# Altium integrated library Micron Memory Mobile LPDRAM.IntLib: 146 symbols (part 3 of 41)
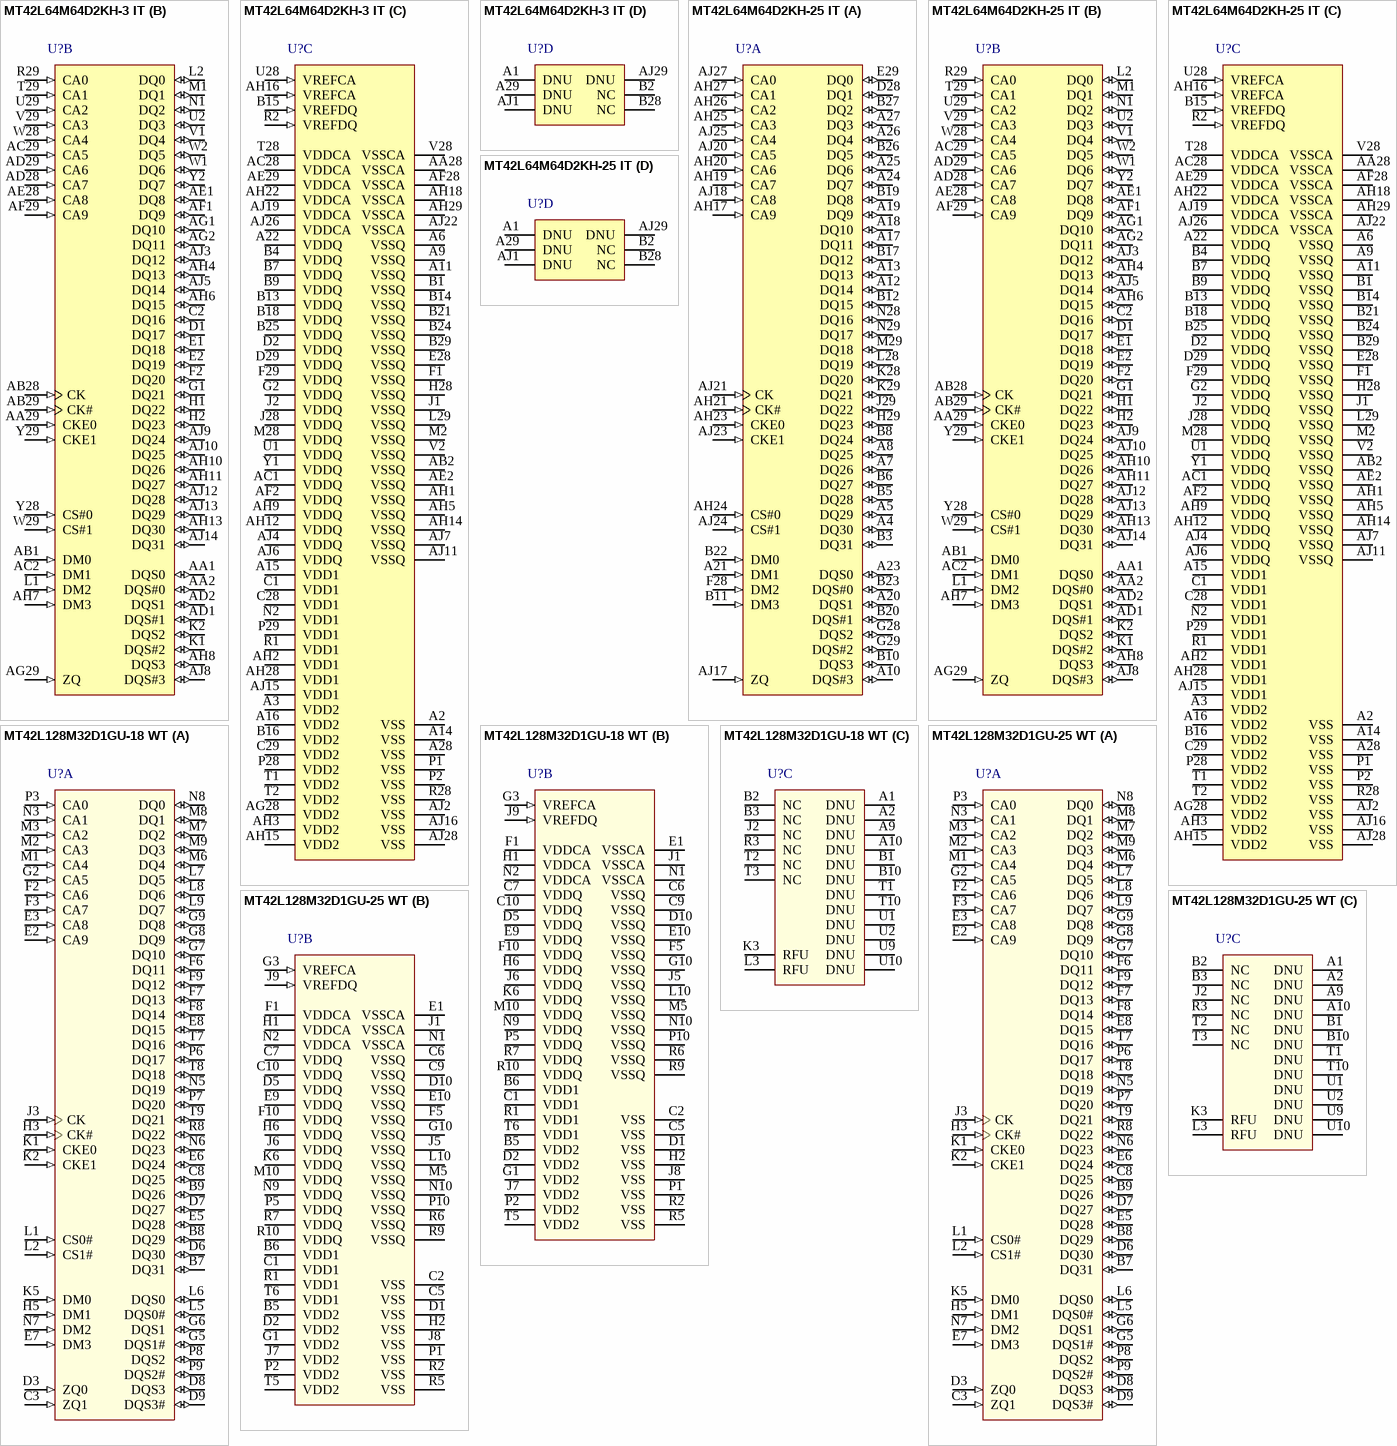
[diagram p26: symbols MT42L64M64D2KH-3 IT to MT42L128M32D1GU-25 WT]

## MT42L64M64D2KH-25 IT
designator U?
4Gb LPDDR2-800 SDRAM, 64Mb x 64, 2.5ns, 1.2V, -25 to 85 degC, 216-Pin POP, Pb-Free; Manufacturer: Micron; PartNumber: MT42L64M64D2KH-25 IT; Clock Rate: 400 MHz; Op. Temp.: -25C to +85C; DatasheetVersion: Rev.N; PackageVersion: Rev.N; PackageReference: MICT-KH-216; PackageDescription: 216-Ball POP, 12 x 12 mm, Pitch 0.4 mm; Cycle Time: 2.5ns; Data Rate: LPDDR2-800; Density: 4Gb; Depth: 64Mb; Package: POP; Part Status: Production; Pin Count: 216-ball; RoHS: Yes; Technology: Mobile LPDDR2; Voltage: 1.2V; Width: x64; Mounting Technology: Surface Mount; ComponentLink1Description: Manufacturer URL; ComponentLink1URL: http://www.micron.com/; ComponentLink2Description: Datasheet; ComponentLink2URL: http://www.micron.com/~/media/Documents/Products/Data%20Sheet/DRAM/Mobile%20DRAM/Low-Power%20DRAM/LPDDR2/G69A_2Gb_mobile_lpddr2_s4_sdram.pdf; ComponentLink3Description: Package Specification; ComponentLink3URL: http://www.micron.com/~/media/Documents/Products/Data%20Sheet/DRAM/Mobile%20DRAM/Low-Power%20DRAM/LPDDR2/G69A_2Gb_mobile_lpddr2_s4_sdram.pdf
footprint MICT-KH-216 (BGA, 216-Balls, Body 12x12mm, Pitch 0.4mm)
part A pins: A4 DQ30 (io) "Data input/output: Bidirectional data bus.", A5 DQ29 (io) "Data input/output: Bidirectional data bus.", A7 DQ26 (io) "Data input/output: Bidirectional data bus.", A8 DQ25 (io) "Data input/output: Bidirectional data bus.", A10 DQS#3 (io) "Data strobe: The data strobe is bidirectional (used for read and write data) and complementary (DQS and DQS#). It is edge-aligned output with read data and centered input with write data. DQS[3:0]/DQS[3:0]# is DQS for each (See Datasheet)", A12 DQ14 (io) "Data input/output: Bidirectional data bus.", A13 DQ13 (io) "Data input/output: Bidirectional data bus.", A17 DQ11 (io) "Data input/output: Bidirectional data bus.", A18 DQ10 (io) "Data input/output: Bidirectional data bus.", A19 DQ9 (io) "Data input/output: Bidirectional data bus.", A20 DQS1 (io) "Data strobe: The data strobe is bidirectional (used for read and write data) and complementary (DQS and DQS#). It is edge-aligned output with read data and centered input with write data. DQS[3:0]/DQS[3:0]# is DQS for each (See Datasheet)", A21 DM1 (in) "Input data mask: DM is an input mask signal for write data. Although DM balls are input-only, the DM loading is designed to match that of DQ and DQS balls. DM[3:0] is DM for each of the four data bytes, respectively.", A23 DQS0 (io) "Data strobe: The data strobe is bidirectional (used for read and write data) and complementary (DQS and DQS#). It is edge-aligned output with read data and centered input with write data. DQS[3:0]/DQS[3:0]# is DQS for each (See Datasheet)", A24 DQ7 (io) "Data input/output: Bidirectional data bus.", A25 DQ6 (io) "Data input/output: Bidirectional data bus.", A26 DQ4 (io) "Data input/output: Bidirectional data bus.", A27 DQ3 (io) "Data input/output: Bidirectional data bus.", AH17 CA9 (in) "Command/address inputs: Provide the command and address inputs according to the command truth table.", AH19 CA7 (in) "Command/address inputs: Provide the command and address inputs according to the command truth table.", AH20 CA6 (in) "Command/address inputs: Provide the command and address inputs according to the command truth table.", AH21 CK# (in) "Clock: CK and CK# are differential clock inputs. All CA inputs are sampled on both rising and falling edges of CK. CS and CKE inputs are sampled at the rising edge of CK. AC timings are referenced to clock.", AH23 CKE0 (in) "Clock enable: CKE HIGH activates and CKE LOW deactivates the internal clock signals, input buffers, and output drivers. Power-saving modes are entered and exited via CKE transitions. CKE is considered part of the command (See Datasheet)", AH24 CS#0 (in) "Chip select: CS# is considered part of the command code and is sampled at the rising edge of CK.", AH25 CA3 (in) "Command/address inputs: Provide the command and address inputs according to the command truth table.", AH26 CA2 (in) "Command/address inputs: Provide the command and address inputs according to the command truth table.", AH27 CA1 (in) "Command/address inputs: Provide the command and address inputs according to the command truth table.", AJ17 ZQ (in) "External impedance (240 ohm): This signal is used to calibrate the device output impedance for S4 devices. For S2 devices, ZQ should be tied to VDDCA.", AJ18 CA8 (in) "Command/address inputs: Provide the command and address inputs according to the command truth table.", AJ20 CA5 (in) "Command/address inputs: Provide the command and address inputs according to the command truth table.", AJ21 CK (in) "Clock: CK and CK# are differential clock inputs. All CA inputs are sampled on both rising and falling edges of CK. CS and CKE inputs are sampled at the rising edge of CK. AC timings are referenced to clock.", AJ23 CKE1 (in) "Clock enable: CKE HIGH activates and CKE LOW deactivates the internal clock signals, input buffers, and output drivers. Power-saving modes are entered and exited via CKE transitions. CKE is considered part of the command (See Datasheet)", AJ24 CS#1 (in) "Chip select: CS# is considered part of the command code and is sampled at the rising edge of CK.", AJ25 CA4 (in) "Command/address inputs: Provide the command and address inputs according to the command truth table.", AJ27 CA0 (in) "Command/address inputs: Provide the command and address inputs according to the command truth table.", B3 DQ31 (io) "Data input/output: Bidirectional data bus.", B5 DQ28 (io) "Data input/output: Bidirectional data bus.", B6 DQ27 (io) "Data input/output: Bidirectional data bus.", B8 DQ24 (io) "Data input/output: Bidirectional data bus.", B10 DQS3 (io) "Data strobe: The data strobe is bidirectional (used for read and write data) and complementary (DQS and DQS#). It is edge-aligned output with read data and centered input with write data. DQS[3:0]/DQS[3:0]# is DQS for each (See Datasheet)", B11 DM3 (in) "Input data mask: DM is an input mask signal for write data. Although DM balls are input-only, the DM loading is designed to match that of DQ and DQS balls. DM[3:0] is DM for each of the four data bytes, respectively.", B12 DQ15 (io) "Data input/output: Bidirectional data bus.", B17 DQ12 (io) "Data input/output: Bidirectional data bus.", B19 DQ8 (io) "Data input/output: Bidirectional data bus.", B20 DQS#1 (io) "Data strobe: The data strobe is bidirectional (used for read and write data) and complementary (DQS and DQS#). It is edge-aligned output with read data and centered input with write data. DQS[3:0]/DQS[3:0]# is DQS for each (See Datasheet)", B22 DM0 (in) "Input data mask: DM is an input mask signal for write data. Although DM balls are input-only, the DM loading is designed to match that of DQ and DQS balls. DM[3:0] is DM for each of the four data bytes, respectively.", B23 DQS#0 (io) "Data strobe: The data strobe is bidirectional (used for read and write data) and complementary (DQS and DQS#). It is edge-aligned output with read data and centered input with write data. DQS[3:0]/DQS[3:0]# is DQS for each (See Datasheet)", B26 DQ5 (io) "Data input/output: Bidirectional data bus.", B27 DQ2 (io) "Data input/output: Bidirectional data bus.", D28 DQ1 (io) "Data input/output: Bidirectional data bus.", E29 DQ0 (io) "Data input/output: Bidirectional data bus.", F28 DM2 (in) "Input data mask: DM is an input mask signal for write data. Although DM balls are input-only, the DM loading is designed to match that of DQ and DQS balls. DM[3:0] is DM for each of the four data bytes, respectively.", G28 DQS2 (io) "Data strobe: The data strobe is bidirectional (used for read and write data) and complementary (DQS and DQS#). It is edge-aligned output with read data and centered input with write data. DQS[3:0]/DQS[3:0]# is DQS for each (See Datasheet)", G29 DQS#2 (io) "Data strobe: The data strobe is bidirectional (used for read and write data) and complementary (DQS and DQS#). It is edge-aligned output with read data and centered input with write data. DQS[3:0]/DQS[3:0]# is DQS for each (See Datasheet)", H29 DQ23 (io) "Data input/output: Bidirectional data bus.", J29 DQ22 (io) "Data input/output: Bidirectional data bus.", K28 DQ20 (io) "Data input/output: Bidirectional data bus.", K29 DQ21 (io) "Data input/output: Bidirectional data bus.", L28 DQ19 (io) "Data input/output: Bidirectional data bus.", M29 DQ18 (io) "Data input/output: Bidirectional data bus.", N28 DQ16 (io) "Data input/output: Bidirectional data bus.", N29 DQ17 (io) "Data input/output: Bidirectional data bus."
part B pins: AA1 DQS0 (io) "Data strobe: The data strobe is bidirectional (used for read and write data) and complementary (DQS and DQS#). It is edge-aligned output with read data and centered input with write data. DQS[3:0]/DQS[3:0]# is DQS for each (See Datasheet)", AA2 DQS#0 (io) "Data strobe: The data strobe is bidirectional (used for read and write data) and complementary (DQS and DQS#). It is edge-aligned output with read data and centered input with write data. DQS[3:0]/DQS[3:0]# is DQS for each (See Datasheet)", AA29 CKE0 (in) "Clock enable: CKE HIGH activates and CKE LOW deactivates the internal clock signals, input buffers, and output drivers. Power-saving modes are entered and exited via CKE transitions. CKE is considered part of the command (See Datasheet)", AB1 DM0 (in) "Input data mask: DM is an input mask signal for write data. Although DM balls are input-only, the DM loading is designed to match that of DQ and DQS balls. DM[3:0] is DM for each of the four data bytes, respectively.", AB28 CK (in) "Clock: CK and CK# are differential clock inputs. All CA inputs are sampled on both rising and falling edges of CK. CS and CKE inputs are sampled at the rising edge of CK. AC timings are referenced to clock.", AB29 CK# (in) "Clock: CK and CK# are differential clock inputs. All CA inputs are sampled on both rising and falling edges of CK. CS and CKE inputs are sampled at the rising edge of CK. AC timings are referenced to clock.", AC2 DM1 (in) "Input data mask: DM is an input mask signal for write data. Although DM balls are input-only, the DM loading is designed to match that of DQ and DQS balls. DM[3:0] is DM for each of the four data bytes, respectively.", AC29 CA5 (in) "Command/address inputs: Provide the command and address inputs according to the command truth table.", AD1 DQS#1 (io) "Data strobe: The data strobe is bidirectional (used for read and write data) and complementary (DQS and DQS#). It is edge-aligned output with read data and centered input with write data. DQS[3:0]/DQS[3:0]# is DQS for each (See Datasheet)", AD2 DQS1 (io) "Data strobe: The data strobe is bidirectional (used for read and write data) and complementary (DQS and DQS#). It is edge-aligned output with read data and centered input with write data. DQS[3:0]/DQS[3:0]# is DQS for each (See Datasheet)", AD28 CA7 (in) "Command/address inputs: Provide the command and address inputs according to the command truth table.", AD29 CA6 (in) "Command/address inputs: Provide the command and address inputs according to the command truth table.", AE1 DQ8 (io) "Data input/output: Bidirectional data bus.", AE28 CA8 (in) "Command/address inputs: Provide the command and address inputs according to the command truth table.", AF1 DQ9 (io) "Data input/output: Bidirectional data bus.", AF29 CA9 (in) "Command/address inputs: Provide the command and address inputs according to the command truth table.", AG1 DQ10 (io) "Data input/output: Bidirectional data bus.", AG2 DQ11 (io) "Data input/output: Bidirectional data bus.", AG29 ZQ (in) "External impedance (240 ohm): This signal is used to calibrate the device output impedance for S4 devices. For S2 devices, ZQ should be tied to VDDCA.", AH4 DQ13 (io) "Data input/output: Bidirectional data bus.", AH6 DQ15 (io) "Data input/output: Bidirectional data bus.", AH7 DM3 (in) "Input data mask: DM is an input mask signal for write data. Although DM balls are input-only, the DM loading is designed to match that of DQ and DQS balls. DM[3:0] is DM for each of the four data bytes, respectively.", AH8 DQS3 (io) "Data strobe: The data strobe is bidirectional (used for read and write data) and complementary (DQS and DQS#). It is edge-aligned output with read data and centered input with write data. DQS[3:0]/DQS[3:0]# is DQS for each (See Datasheet)", AH10 DQ26 (io) "Data input/output: Bidirectional data bus.", AH11 DQ27 (io) "Data input/output: Bidirectional data bus.", AH13 DQ30 (io) "Data input/output: Bidirectional data bus.", AJ3 DQ12 (io) "Data input/output: Bidirectional data bus.", AJ5 DQ14 (io) "Data input/output: Bidirectional data bus.", AJ8 DQS#3 (io) "Data strobe: The data strobe is bidirectional (used for read and write data) and complementary (DQS and DQS#). It is edge-aligned output with read data and centered input with write data. DQS[3:0]/DQS[3:0]# is DQS for each (See Datasheet)", AJ9 DQ24 (io) "Data input/output: Bidirectional data bus.", AJ10 DQ25 (io) "Data input/output: Bidirectional data bus.", AJ12 DQ28 (io) "Data input/output: Bidirectional data bus.", AJ13 DQ29 (io) "Data input/output: Bidirectional data bus.", AJ14 DQ31 (io) "Data input/output: Bidirectional data bus.", C2 DQ16 (io) "Data input/output: Bidirectional data bus.", D1 DQ17 (io) "Data input/output: Bidirectional data bus.", E1 DQ18 (io) "Data input/output: Bidirectional data bus.", E2 DQ19 (io) "Data input/output: Bidirectional data bus.", F2 DQ20 (io) "Data input/output: Bidirectional data bus.", G1 DQ21 (io) "Data input/output: Bidirectional data bus.", H1 DQ22 (io) "Data input/output: Bidirectional data bus.", H2 DQ23 (io) "Data input/output: Bidirectional data bus.", K1 DQS#2 (io) "Data strobe: The data strobe is bidirectional (used for read and write data) and complementary (DQS and DQS#). It is edge-aligned output with read data and centered input with write data. DQS[3:0]/DQS[3:0]# is DQS for each (See Datasheet)", K2 DQS2 (io) "Data strobe: The data strobe is bidirectional (used for read and write data) and complementary (DQS and DQS#). It is edge-aligned output with read data and centered input with write data. DQS[3:0]/DQS[3:0]# is DQS for each (See Datasheet)", L1 DM2 (in) "Input data mask: DM is an input mask signal for write data. Although DM balls are input-only, the DM loading is designed to match that of DQ and DQS balls. DM[3:0] is DM for each of the four data bytes, respectively.", L2 DQ0 (io) "Data input/output: Bidirectional data bus.", M1 DQ1 (io) "Data input/output: Bidirectional data bus.", N1 DQ2 (io) "Data input/output: Bidirectional data bus.", R29 CA0 (in) "Command/address inputs: Provide the command and address inputs according to the command truth table.", T29 CA1 (in) "Command/address inputs: Provide the command and address inputs according to the command truth table.", U2 DQ3 (io) "Data input/output: Bidirectional data bus.", U29 CA2 (in) "Command/address inputs: Provide the command and address inputs according to the command truth table.", V1 DQ4 (io) "Data input/output: Bidirectional data bus.", V29 CA3 (in) "Command/address inputs: Provide the command and address inputs according to the command truth table.", W1 DQ6 (io) "Data input/output: Bidirectional data bus.", W2 DQ5 (io) "Data input/output: Bidirectional data bus.", W28 CA4 (in) "Command/address inputs: Provide the command and address inputs according to the command truth table.", W29 CS#1 (in) "Chip select: CS# is considered part of the command code and is sampled at the rising edge of CK.", Y2 DQ7 (io) "Data input/output: Bidirectional data bus.", Y28 CS#0 (in) "Chip select: CS# is considered part of the command code and is sampled at the rising edge of CK.", Y29 CKE1 (in) "Clock enable: CKE HIGH activates and CKE LOW deactivates the internal clock signals, input buffers, and output drivers. Power-saving modes are entered and exited via CKE transitions. CKE is considered part of the command (See Datasheet)"
part C pins: A2 VSS (power) "Common ground", A3 VDD2 (power) "Core power: Supply 2.", A6 VSSQ (power) "DQ ground: Isolated on the die for improved noise immunity.", A9 VSSQ (power) "DQ ground: Isolated on the die for improved noise immunity.", A11 VSSQ (power) "DQ ground: Isolated on the die for improved noise immunity.", A14 VSS (power) "Common ground", A15 VDD1 (power) "Core power: Supply 1.", A16 VDD2 (power) "Core power: Supply 2.", A22 VDDQ (power) "DQ power supply: Isolated on the die for improved noise immunity.", A28 VSS (power) "Common ground", AA28 VSSCA (power) "Command/address ground: Isolated on the die for improved noise immunity.", AB2 VSSQ (power) "DQ ground: Isolated on the die for improved noise immunity.", AC1 VDDQ (power) "DQ power supply: Isolated on the die for improved noise immunity.", AC28 VDDCA (power) "Command/address power supply: Command/address power supply.", AE2 VSSQ (power) "DQ ground: Isolated on the die for improved noise immunity.", AE29 VDDCA (power) "Command/address power supply: Command/address power supply.", AF2 VDDQ (power) "DQ power supply: Isolated on the die for improved noise immunity.", AF28 VSSCA (power) "Command/address ground: Isolated on the die for improved noise immunity.", AG28 VDD2 (power) "Core power: Supply 2.", AH1 VSSQ (power) "DQ ground: Isolated on the die for improved noise immunity.", AH2 VDD1 (power) "Core power: Supply 1.", AH3 VDD2 (power) "Core power: Supply 2.", AH5 VSSQ (power) "DQ ground: Isolated on the die for improved noise immunity.", AH9 VDDQ (power) "DQ power supply: Isolated on the die for improved noise immunity.", AH12 VDDQ (power) "DQ power supply: Isolated on the die for improved noise immunity.", AH14 VSSQ (power) "DQ ground: Isolated on the die for improved noise immunity.", AH15 VDD2 (power) "Core power: Supply 2.", AH16 VREFCA (in) "Reference voltage: VREFCA is reference for command/address input buffers, VREFDQ is reference for DQ input buffers.", AH18 VSSCA (power) "Command/address ground: Isolated on the die for improved noise immunity.", AH22 VDDCA (power) "Command/address power supply: Command/address power supply.", AH28 VDD1 (power) "Core power: Supply 1.", AH29 VSSCA (power) "Command/address ground: Isolated on the die for improved noise immunity.", AJ2 VSS (power) "Common ground", AJ4 VDDQ (power) "DQ power supply: Isolated on the die for improved noise immunity.", AJ6 VDDQ (power) "DQ power supply: Isolated on the die for improved noise immunity.", AJ7 VSSQ (power) "DQ ground: Isolated on the die for improved noise immunity.", AJ11 VSSQ (power) "DQ ground: Isolated on the die for improved noise immunity.", AJ15 VDD1 (power) "Core power: Supply 1.", AJ16 VSS (power) "Common ground", AJ19 VDDCA (power) "Command/address power supply: Command/address power supply.", AJ22 VSSCA (power) "Command/address ground: Isolated on the die for improved noise immunity.", AJ26 VDDCA (power) "Command/address power supply: Command/address power supply.", AJ28 VSS (power) "Common ground", B1 VSSQ (power) "DQ ground: Isolated on the die for improved noise immunity.", B4 VDDQ (power) "DQ power supply: Isolated on the die for improved noise immunity.", B7 VDDQ (power) "DQ power supply: Isolated on the die for improved noise immunity.", B9 VDDQ (power) "DQ power supply: Isolated on the die for improved noise immunity.", B13 VDDQ (power) "DQ power supply: Isolated on the die for improved noise immunity.", B14 VSSQ (power) "DQ ground: Isolated on the die for improved noise immunity.", B15 VREFDQ (in) "Reference voltage: VREFCA is reference for command/address input buffers, VREFDQ is reference for DQ input buffers.", B16 VDD2 (power) "Core power: Supply 2.", B18 VDDQ (power) "DQ power supply: Isolated on the die for improved noise immunity.", B21 VSSQ (power) "DQ ground: Isolated on the die for improved noise immunity.", B24 VSSQ (power) "DQ ground: Isolated on the die for improved noise immunity.", B25 VDDQ (power) "DQ power supply: Isolated on the die for improved noise immunity.", B29 VSSQ (power) "DQ ground: Isolated on the die for improved noise immunity.", C1 VDD1 (power) "Core power: Supply 1.", C28 VDD1 (power) "Core power: Supply 1.", C29 VDD2 (power) "Core power: Supply 2.", D2 VDDQ (power) "DQ power supply: Isolated on the die for improved noise immunity.", D29 VDDQ (power) "DQ power supply: Isolated on the die for improved noise immunity.", E28 VSSQ (power) "DQ ground: Isolated on the die for improved noise immunity.", F1 VSSQ (power) "DQ ground: Isolated on the die for improved noise immunity.", F29 VDDQ (power) "DQ power supply: Isolated on the die for improved noise immunity.", G2 VDDQ (power) "DQ power supply: Isolated on the die for improved noise immunity.", H28 VSSQ (power) "DQ ground: Isolated on the die for improved noise immunity.", J1 VSSQ (power) "DQ ground: Isolated on the die for improved noise immunity.", J2 VDDQ (power) "DQ power supply: Isolated on the die for improved noise immunity.", J28 VDDQ (power) "DQ power supply: Isolated on the die for improved noise immunity.", L29 VSSQ (power) "DQ ground: Isolated on the die for improved noise immunity.", M2 VSSQ (power) "DQ ground: Isolated on the die for improved noise immunity.", M28 VDDQ (power) "DQ power supply: Isolated on the die for improved noise immunity.", N2 VDD1 (power) "Core power: Supply 1.", P1 VSS (power) "Common ground", P2 VSS (power) "Common ground", P28 VDD2 (power) "Core power: Supply 2.", P29 VDD1 (power) "Core power: Supply 1.", R1 VDD1 (power) "Core power: Supply 1.", R2 VREFDQ (in) "Reference voltage: VREFCA is reference for command/address input buffers, VREFDQ is reference for DQ input buffers.", R28 VSS (power) "Common ground", T1 VDD2 (power) "Core power: Supply 2.", T2 VDD2 (power) "Core power: Supply 2.", T28 VDDCA (power) "Command/address power supply: Command/address power supply.", U1 VDDQ (power) "DQ power supply: Isolated on the die for improved noise immunity.", U28 VREFCA (in) "Reference voltage: VREFCA is reference for command/address input buffers, VREFDQ is reference for DQ input buffers.", V2 VSSQ (power) "DQ ground: Isolated on the die for improved noise immunity.", V28 VSSCA (power) "Command/address ground: Isolated on the die for improved noise immunity.", Y1 VDDQ (power) "DQ power supply: Isolated on the die for improved noise immunity."
part D pins: A1 DNU "Do not use: Must be grounded or left floating.", A29 DNU "Do not use: Must be grounded or left floating.", AJ1 DNU "Do not use: Must be grounded or left floating.", AJ29 DNU "Do not use: Must be grounded or left floating.", B2 NC "No connect: Not internally connected.", B28 NC "No connect: Not internally connected."

## MT42L128M32D1GU-18 WT
designator U?
4Gb LPDDR2-1066 SDRAM, 128Mb x 32, 1.875ns, 1.2V, -25 to 85 degC, 134-Ball WFBGA, Pb-Free; Manufacturer: Micron; PartNumber: MT42L128M32D1GU-18 WT; Clock Rate: 533 MHz; Op. Temp.: -25C to +85C; DatasheetVersion: Rev.L; PackageVersion: Rev.L; PackageReference: MICT-GU-134; PackageDescription: 134-Ball Fine-Pitch Ball Grid Array, 11.5 x 10 mm, Pitch 0.65 mm; Cycle Time: 1.875ns; Data Rate: LPDDR2-1066; Density: 4Gb; Depth: 128Mb; Package: WFBGA; Part Status: Sampling; Pin Count: 134-ball; RoHS: Yes; Technology: Mobile LPDDR2; Voltage: 1.2V; Width: x32; Mounting Technology: Surface Mount; ComponentLink1Description: Manufacturer URL; ComponentLink1URL: http://www.micron.com/; ComponentLink2Description: Datasheet; ComponentLink2URL: http://www.micron.com/~/media/Documents/Products/Data%20Sheet/DRAM/Mobile%20DRAM/Low-Power%20DRAM/LPDDR2/U80M_4Gb_mobile_lpddr2_s4_sdram.pdf; ComponentLink3Description: Package Specification; ComponentLink3URL: http://www.micron.com/~/media/Documents/Products/Data%20Sheet/DRAM/Mobile%20DRAM/Low-Power%20DRAM/LPDDR2/U80M_4Gb_mobile_lpddr2_s4_sdram.pdf
footprint MICT-GU-134 (BGA, 134-Balls, Body 11.5x10mm, Pitch 0.65mm)
part A pins: B7 DQ31 (io) "Data input/output: Bidirectional data bus.", B8 DQ29 (io) "Data input/output: Bidirectional data bus.", B9 DQ26 (io) "Data input/output: Bidirectional data bus.", C3 ZQ1 (in) "External impedance (240 ohm): This signal is used to calibrate the device output impedance.", C8 DQ25 (io) "Data input/output: Bidirectional data bus.", D3 ZQ0 (in) "External impedance (240 ohm): This signal is used to calibrate the device output impedance.", D6 DQ30 (io) "Data input/output: Bidirectional data bus.", D7 DQ27 (io) "Data input/output: Bidirectional data bus.", D8 DQS3 (io) "Data strobe: The data strobe is bidirectional (used for read and write data) andcomplementary (DQS and DQS#). It is edge-aligned output with read data andcentered input with write data. DQS[3:0]/DQS[3:0]# is DQS for each of (See Datasheet)", D9 DQS3# (io) "Data strobe: The data strobe is bidirectional (used for read and write data) andcomplementary (DQS and DQS#). It is edge-aligned output with read data andcentered input with write data. DQS[3:0]/DQS[3:0]# is DQS for each of (See Datasheet)", E2 CA9 (in) "Command/address inputs: Provide the command and address inputs accordingto the command truth table.", E3 CA8 (in) "Command/address inputs: Provide the command and address inputs accordingto the command truth table.", E5 DQ28 (io) "Data input/output: Bidirectional data bus.", E6 DQ24 (io) "Data input/output: Bidirectional data bus.", E7 DM3 (in) "Input data mask: DM is an input mask signal for write data. Although DM ballsare input-only, the DM loading is designed to match that of DQ and DQS balls.DM[3:0] is DM for each of the four data bytes, respectively.", E8 DQ15 (io) "Data input/output: Bidirectional data bus.", F2 CA6 (in) "Command/address inputs: Provide the command and address inputs accordingto the command truth table.", F3 CA7 (in) "Command/address inputs: Provide the command and address inputs accordingto the command truth table.", F6 DQ11 (io) "Data input/output: Bidirectional data bus.", F7 DQ13 (io) "Data input/output: Bidirectional data bus.", F8 DQ14 (io) "Data input/output: Bidirectional data bus.", F9 DQ12 (io) "Data input/output: Bidirectional data bus.", G2 CA5 (in) "Command/address inputs: Provide the command and address inputs accordingto the command truth table.", G5 DQS1# (io) "Data strobe: The data strobe is bidirectional (used for read and write data) andcomplementary (DQS and DQS#). It is edge-aligned output with read data andcentered input with write data. DQS[3:0]/DQS[3:0]# is DQS for each of (See Datasheet)", G6 DQS1 (io) "Data strobe: The data strobe is bidirectional (used for read and write data) andcomplementary (DQS and DQS#). It is edge-aligned output with read data andcentered input with write data. DQS[3:0]/DQS[3:0]# is DQS for each of (See Datasheet)", G7 DQ10 (io) "Data input/output: Bidirectional data bus.", G8 DQ9 (io) "Data input/output: Bidirectional data bus.", G9 DQ8 (io) "Data input/output: Bidirectional data bus.", H3 CK# (in) "Clock: CK and CK# are differential clock inputs. All CA inputs are sampled onboth rising and falling edges of CK. CS and CKE inputs are sampled at the risingedge of CK. AC timings are referenced to clock.", H5 DM1 (in) "Input data mask: DM is an input mask signal for write data. Although DM ballsare input-only, the DM loading is designed to match that of DQ and DQS balls.DM[3:0] is DM for each of the four data bytes, respectively.", J3 CK (in) "Clock: CK and CK# are differential clock inputs. All CA inputs are sampled onboth rising and falling edges of CK. CS and CKE inputs are sampled at the risingedge of CK. AC timings are referenced to clock.", K1 CKE0 (in) "Clock enable: CKE HIGH activates and CKE LOW deactivates the internal clocksignals, input buffers, and output drivers. Power-saving modes are entered andexited via CKE transitions. CKE is considered part of the command code. (See Datasheet)", K2 CKE1 (in) "Clock enable: CKE HIGH activates and CKE LOW deactivates the internal clocksignals, input buffers, and output drivers. Power-saving modes are entered andexited via CKE transitions. CKE is considered part of the command code. (See Datasheet)", K5 DM0 (in) "Input data mask: DM is an input mask signal for write data. Although DM ballsare input-only, the DM loading is designed to match that of DQ and DQS balls.DM[3:0] is DM for each of the four data bytes, respectively.", L1 CS0# (in) "Chip select: CS# is considered part of the command code and is sampled at therising edge of CK.", L2 CS1# (in) "Chip select: CS# is considered part of the command code and is sampled at therising edge of CK.", L5 DQS0# (io) "Data strobe: The data strobe is bidirectional (used for read and write data) andcomplementary (DQS and DQS#). It is edge-aligned output with read data andcentered input with write data. DQS[3:0]/DQS[3:0]# is DQS for each of (See Datasheet)", L6 DQS0 (io) "Data strobe: The data strobe is bidirectional (used for read and write data) andcomplementary (DQS and DQS#). It is edge-aligned output with read data andcentered input with write data. DQS[3:0]/DQS[3:0]# is DQS for each of (See Datasheet)", L7 DQ5 (io) "Data input/output: Bidirectional data bus.", L8 DQ6 (io) "Data input/output: Bidirectional data bus.", L9 DQ7 (io) "Data input/output: Bidirectional data bus.", M1 CA4 (in) "Command/address inputs: Provide the command and address inputs accordingto the command truth table.", M2 CA3 (in) "Command/address inputs: Provide the command and address inputs accordingto the command truth table.", M3 CA2 (in) "Command/address inputs: Provide the command and address inputs accordingto the command truth table.", M6 DQ4 (io) "Data input/output: Bidirectional data bus.", M7 DQ2 (io) "Data input/output: Bidirectional data bus.", M8 DQ1 (io) "Data input/output: Bidirectional data bus.", M9 DQ3 (io) "Data input/output: Bidirectional data bus.", N3 CA1 (in) "Command/address inputs: Provide the command and address inputs accordingto the command truth table.", N5 DQ19 (io) "Data input/output: Bidirectional data bus.", N6 DQ23 (io) "Data input/output: Bidirectional data bus.", N7 DM2 (in) "Input data mask: DM is an input mask signal for write data. Although DM ballsare input-only, the DM loading is designed to match that of DQ and DQS balls.DM[3:0] is DM for each of the four data bytes, respectively.", N8 DQ0 (io) "Data input/output: Bidirectional data bus.", P3 CA0 (in) "Command/address inputs: Provide the command and address inputs accordingto the command truth table.", P6 DQ17 (io) "Data input/output: Bidirectional data bus.", P7 DQ20 (io) "Data input/output: Bidirectional data bus.", P8 DQS2 (io) "Data strobe: The data strobe is bidirectional (used for read and write data) andcomplementary (DQS and DQS#). It is edge-aligned output with read data andcentered input with write data. DQS[3:0]/DQS[3:0]# is DQS for each of (See Datasheet)", P9 DQS2# (io) "Data strobe: The data strobe is bidirectional (used for read and write data) andcomplementary (DQS and DQS#). It is edge-aligned output with read data andcentered input with write data. DQS[3:0]/DQS[3:0]# is DQS for each of (See Datasheet)", R8 DQ22 (io) "Data input/output: Bidirectional data bus.", T7 DQ16 (io) "Data input/output: Bidirectional data bus.", T8 DQ18 (io) "Data input/output: Bidirectional data bus.", T9 DQ21 (io) "Data input/output: Bidirectional data bus."
part B pins: B5 VDD2 (power) "Core power: Supply 2.", B6 VDD1 (power) "Core power: Supply 1.", C1 VDD1 (power) "Core power: Supply 1.", C2 VSS (power) "Common ground.", C5 VSS (power) "Common ground.", C6 VSSQ (power) "DQ ground: Isolated on the die for improved noise immunity.", C7 VDDQ (power) "DQ power supply: Isolated on the die for improved noise immunity.", C9 VSSQ (power) "DQ ground: Isolated on the die for improved noise immunity.", C10 VDDQ (power) "DQ power supply: Isolated on the die for improved noise immunity.", D1 VSS (power) "Common ground", D2 VDD2 (power) "Core power: Supply 2.", D5 VDDQ (power) "DQ power supply: Isolated on the die for improved noise immunity.", D10 VSSQ (power) "DQ ground: Isolated on the die for improved noise immunity.", E1 VSSCA (power) "Command/address ground: Isolated on the die for improved noise immunity.", E9 VDDQ (power) "DQ power supply: Isolated on the die for improved noise immunity.", E10 VSSQ (power) "DQ ground: Isolated on the die for improved noise immunity.", F1 VDDCA (power) "Command/address power supply: Command/address power supply.", F5 VSSQ (power) "DQ ground: Isolated on the die for improved noise immunity.", F10 VDDQ (power) "DQ power supply: Isolated on the die for improved noise immunity.", G1 VDD2 (power) "Core power: Supply 2.", G3 VREFCA (in) "Reference voltage: VREFCA is reference for command/address input buffers,VREFDQ is reference for DQ input buffers.", G10 VSSQ (power) "DQ ground: Isolated on the die for improved noise immunity.", H1 VDDCA (power) "Command/address power supply: Command/address power supply.", H2 VSS (power) "Common ground", H6 VDDQ (power) "DQ power supply: Isolated on the die for improved noise immunity.", J1 VSSCA (power) "Command/address ground: Isolated on the die for improved noise immunity.", J5 VSSQ (power) "DQ ground: Isolated on the die for improved noise immunity.", J6 VDDQ (power) "DQ power supply: Isolated on the die for improved noise immunity.", J7 VDD2 (power) "Core power: Supply 2.", J8 VSS (power) "Common ground", J9 VREFDQ (in) "Reference voltage: VREFCA is reference for command/address input buffers,VREFDQ is reference for DQ input buffers.", K6 VDDQ (power) "DQ power supply: Isolated on the die for improved noise immunity.", L10 VSSQ (power) "DQ ground: Isolated on the die for improved noise immunity.", M5 VSSQ (power) "DQ ground: Isolated on the die for improved noise immunity.", M10 VDDQ (power) "DQ power supply: Isolated on the die for improved noise immunity.", N1 VSSCA (power) "Command/address ground: Isolated on the die for improved noise immunity.", N2 VDDCA (power) "Command/address power supply: Command/address power supply.", N9 VDDQ (power) "DQ power supply: Isolated on the die for improved noise immunity.", N10 VSSQ (power) "DQ ground: Isolated on the die for improved noise immunity.", P1 VSS (power) "Common ground", P2 VDD2 (power) "Core power: Supply 2.", P5 VDDQ (power) "DQ power supply: Isolated on the die for improved noise immunity.", P10 VSSQ (power) "DQ ground: Isolated on the die for improved noise immunity.", R1 VDD1 (power) "Core power: Supply 1.", R2 VSS (power) "Common ground", R5 VSS (power) "Common ground", R6 VSSQ (power) "DQ ground: Isolated on the die for improved noise immunity.", R7 VDDQ (power) "DQ power supply: Isolated on the die for improved noise immunity.", R9 VSSQ (power) "DQ ground: Isolated on the die for improved noise immunity.", R10 VDDQ (power) "DQ power supply: Isolated on the die for improved noise immunity.", T5 VDD2 (power) "Core power: Supply 2.", T6 VDD1 (power) "Core power: Supply 1."
part C pins: A1 DNU "Do not use: Must be grounded or left floating.", A2 DNU "Do not use: Must be grounded or left floating.", A9 DNU "Do not use: Must be grounded or left floating.", A10 DNU "Do not use: Must be grounded or left floating.", B1 DNU "Do not use: Must be grounded or left floating.", B2 NC "No connect: Not internally connected.", B3 NC "No connect: Not internally connected.", B10 DNU "Do not use: Must be grounded or left floating.", J2 NC "No connect: Not internally connected.", K3 RFU, L3 RFU, R3 NC "No connect: Not internally connected.", T1 DNU "Do not use: Must be grounded or left floating.", T2 NC "No connect: Not internally connected.", T3 NC "No connect: Not internally connected.", T10 DNU "Do not use: Must be grounded or left floating.", U1 DNU "Do not use: Must be grounded or left floating.", U2 DNU "Do not use: Must be grounded or left floating.", U9 DNU "Do not use: Must be grounded or left floating.", U10 DNU "Do not use: Must be grounded or left floating."

## MT42L128M32D1GU-25 WT
designator U?
4Gb LPDDR2-800 SDRAM, 128Mb x 32, 2.5ns, 1.2V, -25 to 85 degC, 134-Ball WFBGA, Pb-Free; Manufacturer: Micron; PartNumber: MT42L128M32D1GU-25 WT; Clock Rate: 400 MHz; Op. Temp.: -25C to +85C; DatasheetVersion: Rev.L; PackageVersion: Rev.L; PackageReference: MICT-GU-134; PackageDescription: 134-Ball Fine-Pitch Ball Grid Array, 11.5 x 10 mm, Pitch 0.65 mm; Cycle Time: 2.5ns; Data Rate: LPDDR2-800; Density: 4Gb; Depth: 128Mb; Package: WFBGA; Part Status: Sampling; Pin Count: 134-ball; RoHS: Yes; Technology: Mobile LPDDR2; Voltage: 1.2V; Width: x32; Mounting Technology: Surface Mount; ComponentLink1Description: Manufacturer URL; ComponentLink1URL: http://www.micron.com/; ComponentLink2Description: Datasheet; ComponentLink2URL: http://www.micron.com/~/media/Documents/Products/Data%20Sheet/DRAM/Mobile%20DRAM/Low-Power%20DRAM/LPDDR2/U80M_4Gb_mobile_lpddr2_s4_sdram.pdf; ComponentLink3Description: Package Specification; ComponentLink3URL: http://www.micron.com/~/media/Documents/Products/Data%20Sheet/DRAM/Mobile%20DRAM/Low-Power%20DRAM/LPDDR2/U80M_4Gb_mobile_lpddr2_s4_sdram.pdf
footprint MICT-GU-134 (BGA, 134-Balls, Body 11.5x10mm, Pitch 0.65mm)
part A pins: B7 DQ31 (io) "Data input/output: Bidirectional data bus.", B8 DQ29 (io) "Data input/output: Bidirectional data bus.", B9 DQ26 (io) "Data input/output: Bidirectional data bus.", C3 ZQ1 (in) "External impedance (240 ohm): This signal is used to calibrate the device output impedance.", C8 DQ25 (io) "Data input/output: Bidirectional data bus.", D3 ZQ0 (in) "External impedance (240 ohm): This signal is used to calibrate the device output impedance.", D6 DQ30 (io) "Data input/output: Bidirectional data bus.", D7 DQ27 (io) "Data input/output: Bidirectional data bus.", D8 DQS3 (io) "Data strobe: The data strobe is bidirectional (used for read and write data) andcomplementary (DQS and DQS#). It is edge-aligned output with read data andcentered input with write data. DQS[3:0]/DQS[3:0]# is DQS for each of (See Datasheet)", D9 DQS3# (io) "Data strobe: The data strobe is bidirectional (used for read and write data) andcomplementary (DQS and DQS#). It is edge-aligned output with read data andcentered input with write data. DQS[3:0]/DQS[3:0]# is DQS for each of (See Datasheet)", E2 CA9 (in) "Command/address inputs: Provide the command and address inputs accordingto the command truth table.", E3 CA8 (in) "Command/address inputs: Provide the command and address inputs accordingto the command truth table.", E5 DQ28 (io) "Data input/output: Bidirectional data bus.", E6 DQ24 (io) "Data input/output: Bidirectional data bus.", E7 DM3 (in) "Input data mask: DM is an input mask signal for write data. Although DM ballsare input-only, the DM loading is designed to match that of DQ and DQS balls.DM[3:0] is DM for each of the four data bytes, respectively.", E8 DQ15 (io) "Data input/output: Bidirectional data bus.", F2 CA6 (in) "Command/address inputs: Provide the command and address inputs accordingto the command truth table.", F3 CA7 (in) "Command/address inputs: Provide the command and address inputs accordingto the command truth table.", F6 DQ11 (io) "Data input/output: Bidirectional data bus.", F7 DQ13 (io) "Data input/output: Bidirectional data bus.", F8 DQ14 (io) "Data input/output: Bidirectional data bus.", F9 DQ12 (io) "Data input/output: Bidirectional data bus.", G2 CA5 (in) "Command/address inputs: Provide the command and address inputs accordingto the command truth table.", G5 DQS1# (io) "Data strobe: The data strobe is bidirectional (used for read and write data) andcomplementary (DQS and DQS#). It is edge-aligned output with read data andcentered input with write data. DQS[3:0]/DQS[3:0]# is DQS for each of (See Datasheet)", G6 DQS1 (io) "Data strobe: The data strobe is bidirectional (used for read and write data) andcomplementary (DQS and DQS#). It is edge-aligned output with read data andcentered input with write data. DQS[3:0]/DQS[3:0]# is DQS for each of (See Datasheet)", G7 DQ10 (io) "Data input/output: Bidirectional data bus.", G8 DQ9 (io) "Data input/output: Bidirectional data bus.", G9 DQ8 (io) "Data input/output: Bidirectional data bus.", H3 CK# (in) "Clock: CK and CK# are differential clock inputs. All CA inputs are sampled onboth rising and falling edges of CK. CS and CKE inputs are sampled at the risingedge of CK. AC timings are referenced to clock.", H5 DM1 (in) "Input data mask: DM is an input mask signal for write data. Although DM ballsare input-only, the DM loading is designed to match that of DQ and DQS balls.DM[3:0] is DM for each of the four data bytes, respectively.", J3 CK (in) "Clock: CK and CK# are differential clock inputs. All CA inputs are sampled onboth rising and falling edges of CK. CS and CKE inputs are sampled at the risingedge of CK. AC timings are referenced to clock.", K1 CKE0 (in) "Clock enable: CKE HIGH activates and CKE LOW deactivates the internal clocksignals, input buffers, and output drivers. Power-saving modes are entered andexited via CKE transitions. CKE is considered part of the command code. (See Datasheet)", K2 CKE1 (in) "Clock enable: CKE HIGH activates and CKE LOW deactivates the internal clocksignals, input buffers, and output drivers. Power-saving modes are entered andexited via CKE transitions. CKE is considered part of the command code. (See Datasheet)", K5 DM0 (in) "Input data mask: DM is an input mask signal for write data. Although DM ballsare input-only, the DM loading is designed to match that of DQ and DQS balls.DM[3:0] is DM for each of the four data bytes, respectively.", L1 CS0# (in) "Chip select: CS# is considered part of the command code and is sampled at therising edge of CK.", L2 CS1# (in) "Chip select: CS# is considered part of the command code and is sampled at therising edge of CK.", L5 DQS0# (io) "Data strobe: The data strobe is bidirectional (used for read and write data) andcomplementary (DQS and DQS#). It is edge-aligned output with read data andcentered input with write data. DQS[3:0]/DQS[3:0]# is DQS for each of (See Datasheet)", L6 DQS0 (io) "Data strobe: The data strobe is bidirectional (used for read and write data) andcomplementary (DQS and DQS#). It is edge-aligned output with read data andcentered input with write data. DQS[3:0]/DQS[3:0]# is DQS for each of (See Datasheet)", L7 DQ5 (io) "Data input/output: Bidirectional data bus.", L8 DQ6 (io) "Data input/output: Bidirectional data bus.", L9 DQ7 (io) "Data input/output: Bidirectional data bus.", M1 CA4 (in) "Command/address inputs: Provide the command and address inputs accordingto the command truth table.", M2 CA3 (in) "Command/address inputs: Provide the command and address inputs accordingto the command truth table.", M3 CA2 (in) "Command/address inputs: Provide the command and address inputs accordingto the command truth table.", M6 DQ4 (io) "Data input/output: Bidirectional data bus.", M7 DQ2 (io) "Data input/output: Bidirectional data bus.", M8 DQ1 (io) "Data input/output: Bidirectional data bus.", M9 DQ3 (io) "Data input/output: Bidirectional data bus.", N3 CA1 (in) "Command/address inputs: Provide the command and address inputs accordingto the command truth table.", N5 DQ19 (io) "Data input/output: Bidirectional data bus.", N6 DQ23 (io) "Data input/output: Bidirectional data bus.", N7 DM2 (in) "Input data mask: DM is an input mask signal for write data. Although DM ballsare input-only, the DM loading is designed to match that of DQ and DQS balls.DM[3:0] is DM for each of the four data bytes, respectively.", N8 DQ0 (io) "Data input/output: Bidirectional data bus.", P3 CA0 (in) "Command/address inputs: Provide the command and address inputs accordingto the command truth table.", P6 DQ17 (io) "Data input/output: Bidirectional data bus.", P7 DQ20 (io) "Data input/output: Bidirectional data bus.", P8 DQS2 (io) "Data strobe: The data strobe is bidirectional (used for read and write data) andcomplementary (DQS and DQS#). It is edge-aligned output with read data andcentered input with write data. DQS[3:0]/DQS[3:0]# is DQS for each of (See Datasheet)", P9 DQS2# (io) "Data strobe: The data strobe is bidirectional (used for read and write data) andcomplementary (DQS and DQS#). It is edge-aligned output with read data andcentered input with write data. DQS[3:0]/DQS[3:0]# is DQS for each of (See Datasheet)", R8 DQ22 (io) "Data input/output: Bidirectional data bus.", T7 DQ16 (io) "Data input/output: Bidirectional data bus.", T8 DQ18 (io) "Data input/output: Bidirectional data bus.", T9 DQ21 (io) "Data input/output: Bidirectional data bus."
part B pins: B5 VDD2 (power) "Core power: Supply 2.", B6 VDD1 (power) "Core power: Supply 1.", C1 VDD1 (power) "Core power: Supply 1.", C2 VSS (power) "Common ground.", C5 VSS (power) "Common ground.", C6 VSSQ (power) "DQ ground: Isolated on the die for improved noise immunity.", C7 VDDQ (power) "DQ power supply: Isolated on the die for improved noise immunity.", C9 VSSQ (power) "DQ ground: Isolated on the die for improved noise immunity.", C10 VDDQ (power) "DQ power supply: Isolated on the die for improved noise immunity.", D1 VSS (power) "Common ground", D2 VDD2 (power) "Core power: Supply 2.", D5 VDDQ (power) "DQ power supply: Isolated on the die for improved noise immunity.", D10 VSSQ (power) "DQ ground: Isolated on the die for improved noise immunity.", E1 VSSCA (power) "Command/address ground: Isolated on the die for improved noise immunity.", E9 VDDQ (power) "DQ power supply: Isolated on the die for improved noise immunity.", E10 VSSQ (power) "DQ ground: Isolated on the die for improved noise immunity.", F1 VDDCA (power) "Command/address power supply: Command/address power supply.", F5 VSSQ (power) "DQ ground: Isolated on the die for improved noise immunity.", F10 VDDQ (power) "DQ power supply: Isolated on the die for improved noise immunity.", G1 VDD2 (power) "Core power: Supply 2.", G3 VREFCA (in) "Reference voltage: VREFCA is reference for command/address input buffers,VREFDQ is reference for DQ input buffers.", G10 VSSQ (power) "DQ ground: Isolated on the die for improved noise immunity.", H1 VDDCA (power) "Command/address power supply: Command/address power supply.", H2 VSS (power) "Common ground", H6 VDDQ (power) "DQ power supply: Isolated on the die for improved noise immunity.", J1 VSSCA (power) "Command/address ground: Isolated on the die for improved noise immunity.", J5 VSSQ (power) "DQ ground: Isolated on the die for improved noise immunity.", J6 VDDQ (power) "DQ power supply: Isolated on the die for improved noise immunity.", J7 VDD2 (power) "Core power: Supply 2.", J8 VSS (power) "Common ground", J9 VREFDQ (in) "Reference voltage: VREFCA is reference for command/address input buffers,VREFDQ is reference for DQ input buffers.", K6 VDDQ (power) "DQ power supply: Isolated on the die for improved noise immunity.", L10 VSSQ (power) "DQ ground: Isolated on the die for improved noise immunity.", M5 VSSQ (power) "DQ ground: Isolated on the die for improved noise immunity.", M10 VDDQ (power) "DQ power supply: Isolated on the die for improved noise immunity.", N1 VSSCA (power) "Command/address ground: Isolated on the die for improved noise immunity.", N2 VDDCA (power) "Command/address power supply: Command/address power supply.", N9 VDDQ (power) "DQ power supply: Isolated on the die for improved noise immunity.", N10 VSSQ (power) "DQ ground: Isolated on the die for improved noise immunity.", P1 VSS (power) "Common ground", P2 VDD2 (power) "Core power: Supply 2.", P5 VDDQ (power) "DQ power supply: Isolated on the die for improved noise immunity.", P10 VSSQ (power) "DQ ground: Isolated on the die for improved noise immunity.", R1 VDD1 (power) "Core power: Supply 1.", R2 VSS (power) "Common ground", R5 VSS (power) "Common ground", R6 VSSQ (power) "DQ ground: Isolated on the die for improved noise immunity.", R7 VDDQ (power) "DQ power supply: Isolated on the die for improved noise immunity.", R9 VSSQ (power) "DQ ground: Isolated on the die for improved noise immunity.", R10 VDDQ (power) "DQ power supply: Isolated on the die for improved noise immunity.", T5 VDD2 (power) "Core power: Supply 2.", T6 VDD1 (power) "Core power: Supply 1."
part C pins: A1 DNU "Do not use: Must be grounded or left floating.", A2 DNU "Do not use: Must be grounded or left floating.", A9 DNU "Do not use: Must be grounded or left floating.", A10 DNU "Do not use: Must be grounded or left floating.", B1 DNU "Do not use: Must be grounded or left floating.", B2 NC "No connect: Not internally connected.", B3 NC "No connect: Not internally connected.", B10 DNU "Do not use: Must be grounded or left floating.", J2 NC "No connect: Not internally connected.", K3 RFU, L3 RFU, R3 NC "No connect: Not internally connected.", T1 DNU "Do not use: Must be grounded or left floating.", T2 NC "No connect: Not internally connected.", T3 NC "No connect: Not internally connected.", T10 DNU "Do not use: Must be grounded or left floating.", U1 DNU "Do not use: Must be grounded or left floating.", U2 DNU "Do not use: Must be grounded or left floating.", U9 DNU "Do not use: Must be grounded or left floating.", U10 DNU "Do not use: Must be grounded or left floating."

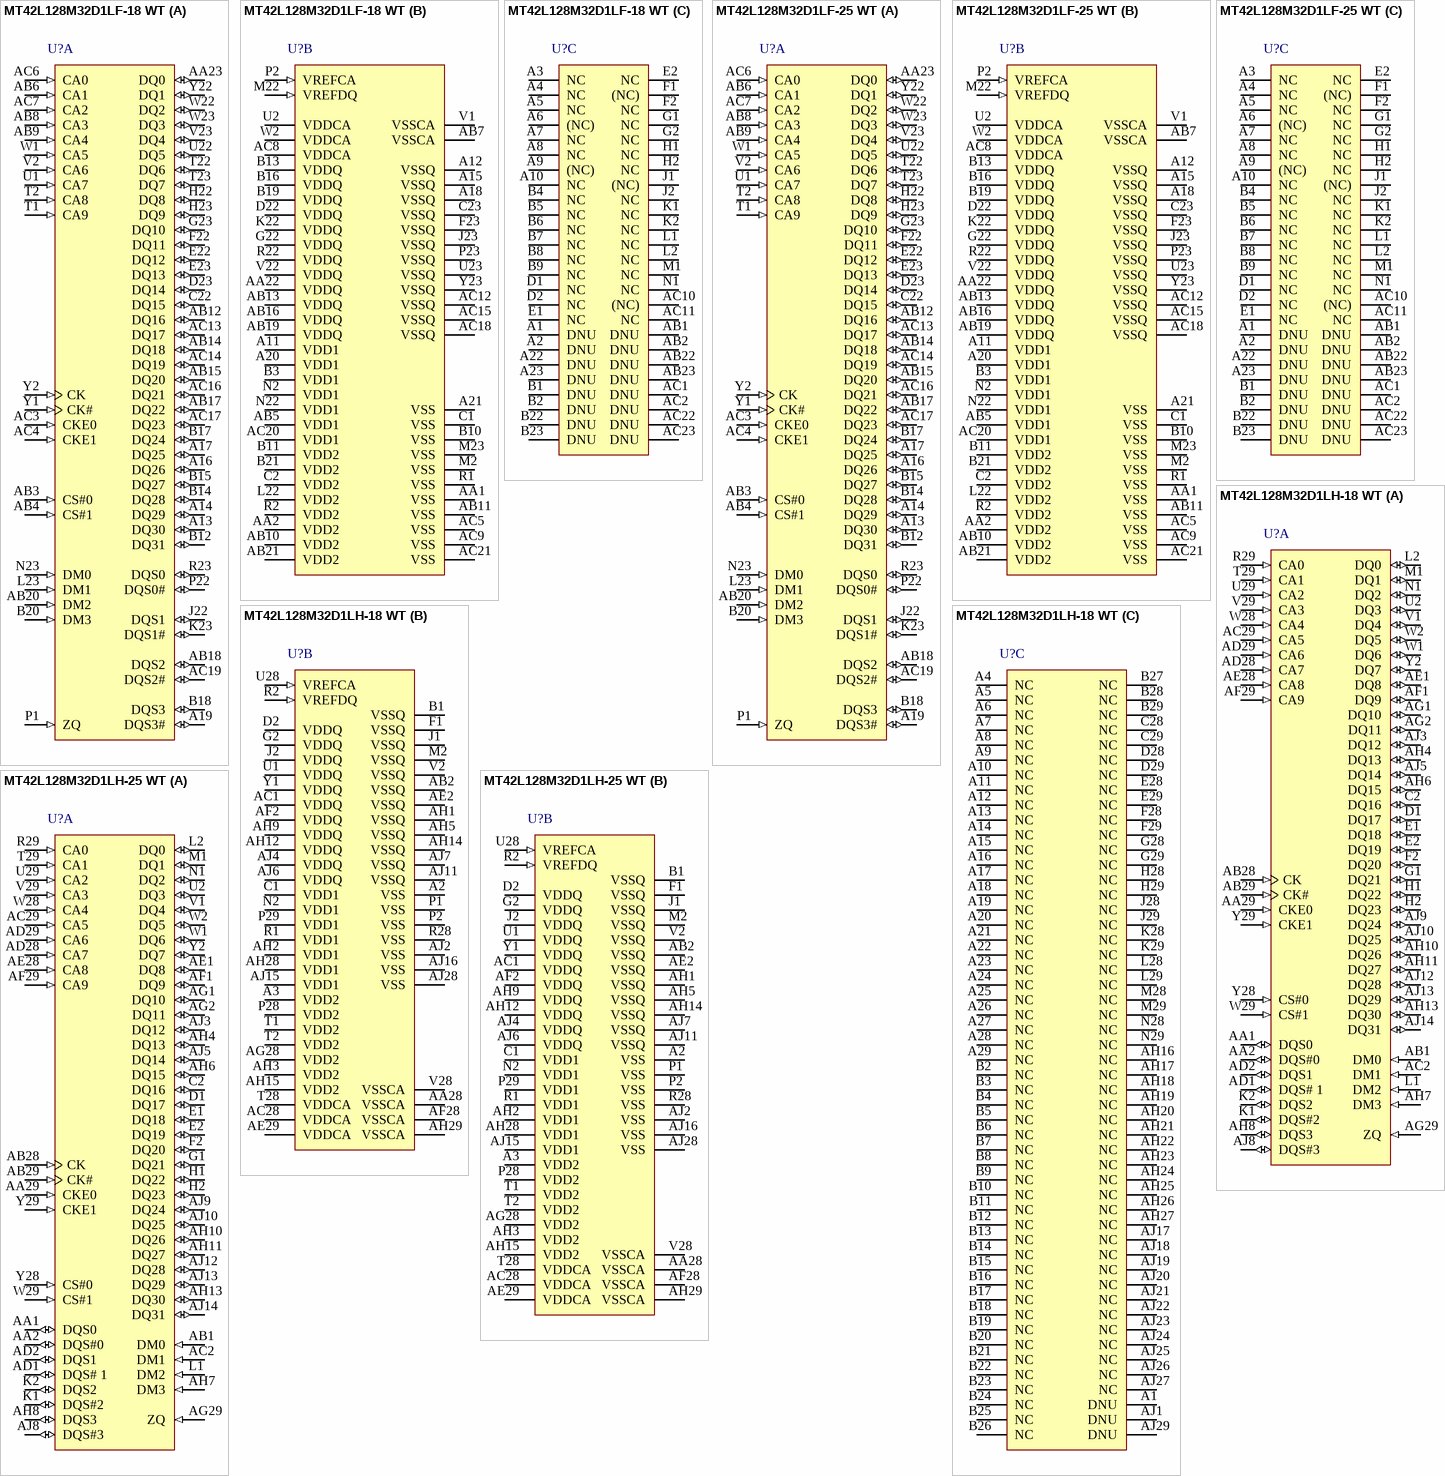
[diagram p2: symbols MT42L128M32D1LF-18 WT to MT42L128M32D1LH-25 WT]